# Altium integrated library LEDs.IntLib: 7 symbols
Pins are listed as number, name and electrical type; pins without a type are passive.

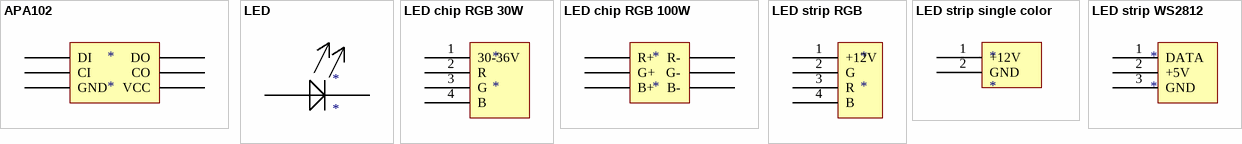
[diagram p0: symbols APA102 to LED strip WS2812]

## APA102
designator *
footprint LED SMD 5x5mm
pins: 1 DI, 2 CI, 3 GND, 4 VCC, 5 CO, 6 DO

## LED
designator *
pins: 1 +, 2 -

## LED chip RGB 30W
designator *
pins: 1 30-36V, 2 R, 3 G, 4 B

## LED chip RGB 100W
designator *
footprint LED Chip RGB 100W Cutout
pins: 1 R+, 2 G+, 3 B+, 4 B-, 5 G-, 6 R-

## LED strip RGB
designator *
footprint LED strip 4 pads
pins: 1 +12V, 2 G, 3 R, 4 B

## LED strip single color
designator *
footprint LED strip 2 pads
pins: 1 +12V, 2 GND

## LED strip WS2812
designator *
footprint LED strip 3 pads
pins: 1 DATA, 2 +5V, 3 GND